# Altium integrated library Silicon Labs Capacitive Touch Sense MCUs.IntLib: 96 symbols (part 3 of 5)
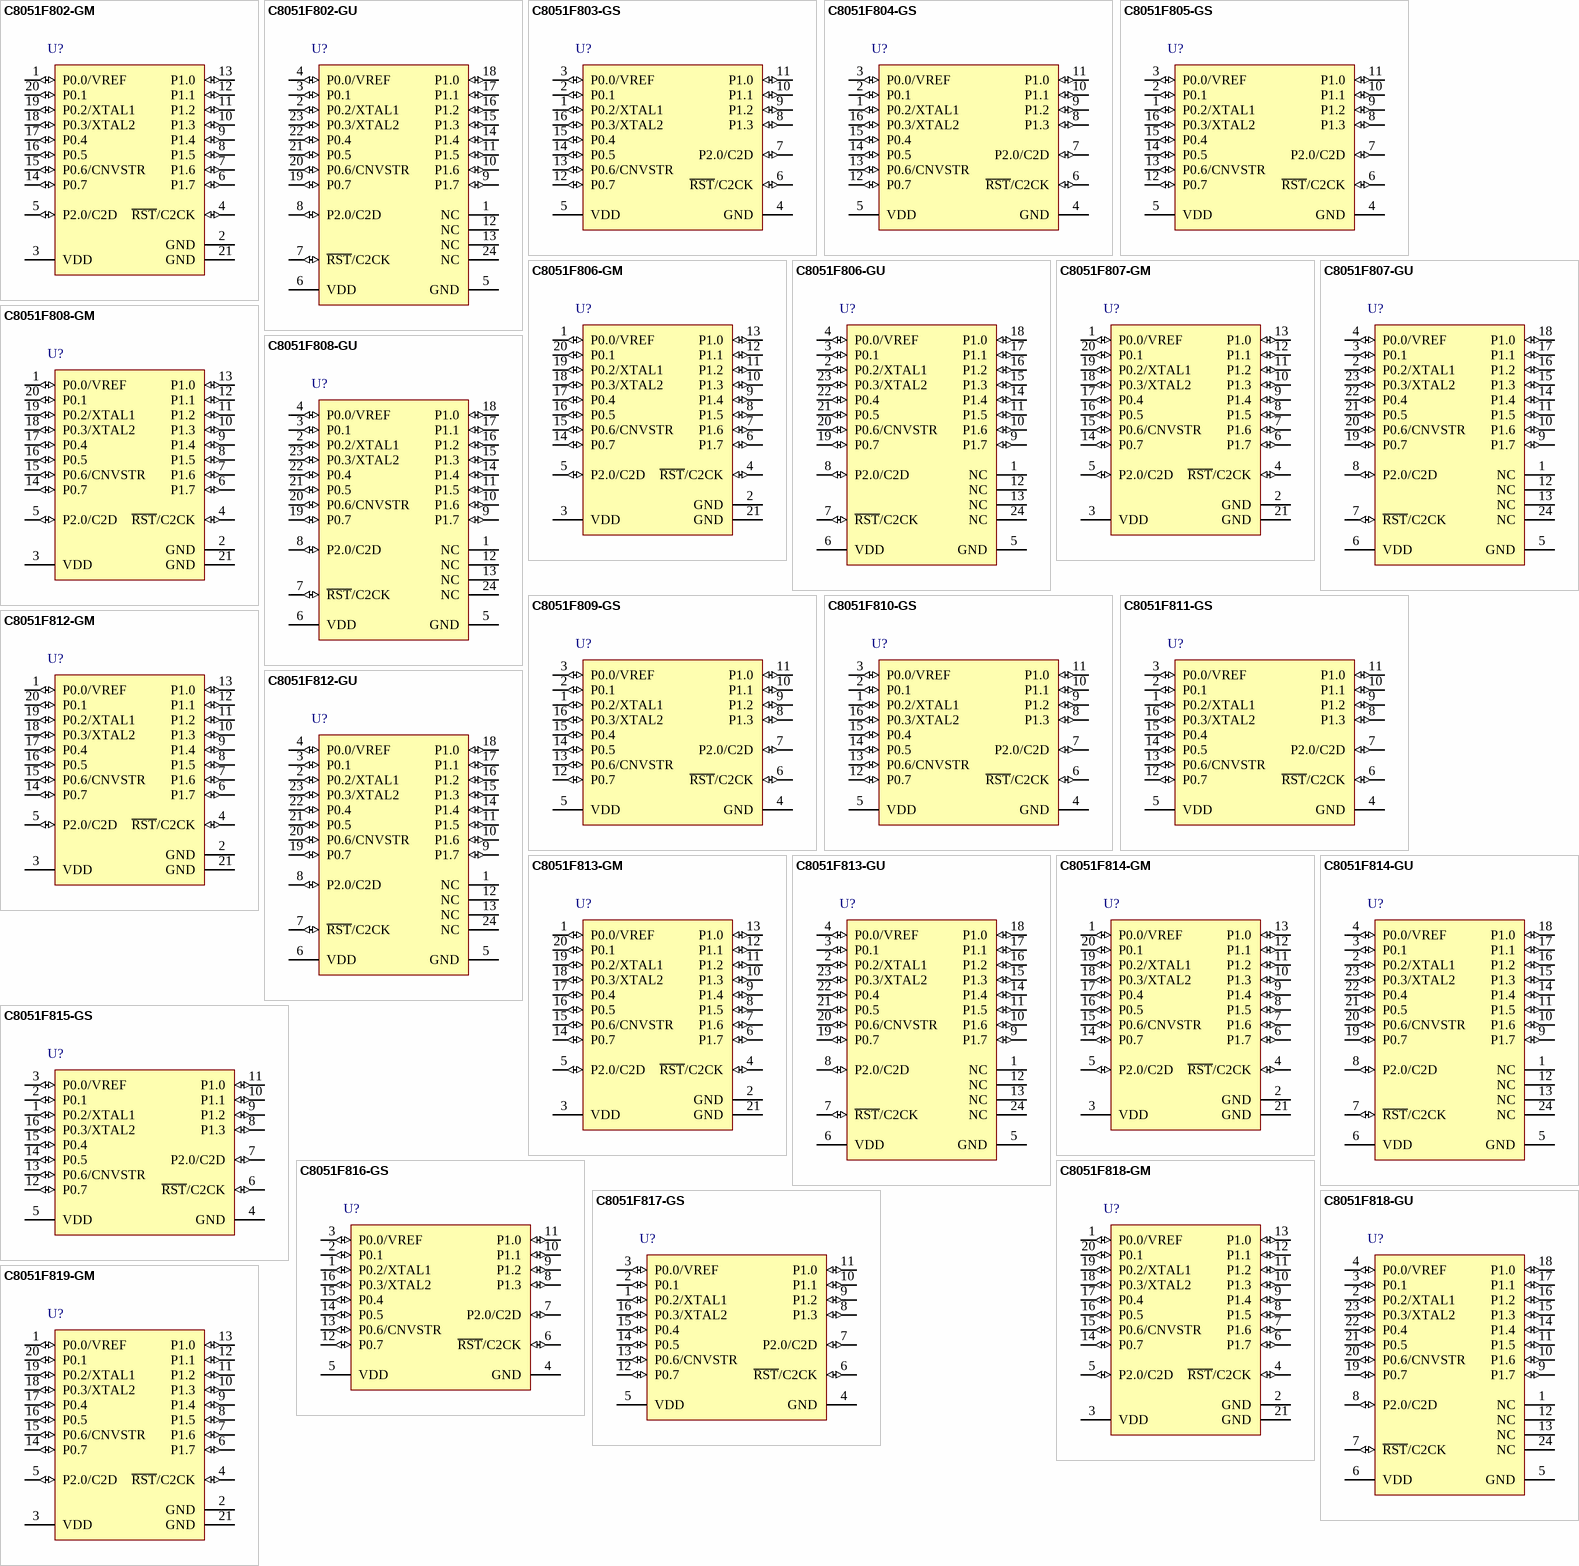
[diagram p8: symbols C8051F802-GM to C8051F819-GM]

## C8051F802-GU
designator U?
Mixed Signal ISP Flash MCU Family, 25 MHz, 0.5 kB RAM, 16 kB Flash, -40 to 85 degC, 24-pin SOP; Manufacturer: Silicon Labs; PartNumber: C8051F802-GU; ADC 1: 10-bit, 16-ch., 500 ksps; AEC-Q100: FALSE; Comparators: 1; Debug Interface: C2; Dig I/O Pins: 17; Flash: 16 kB; Internal Osc. Accuracy: +/-2%; MCU Core: 8051; MHz: 25; PCA Channels: 3; RAM: 0.5 kB; Temp Sensor: TRUE; Sub-Family: Capacitive Touch Sense MCUs; DatasheetVersion: Rev. 1.0; PackageReference: QSOP-24; PackageDescription: 24-Pin Quarter-Size Small-Outline Package, Body 8.65 x 3.9 mm, Pitch 0.635 mm; Supplier 1: Digi-Key; Supplier Part Number 1: 336-1771-5-ND; Supplier 2: Mouser; Supplier Part Number 2: 634-C8051F802-GU; Timers (16-bit): 3; Mounting Technology: Surface Mount; Code_JEDEC: MO-147; Code_IPC: J-STD-020; ComponentLink1Description: Manufacturer URL; ComponentLink1URL: http://www.silabs.com/; ComponentLink2Description: Datasheet; ComponentLink2URL: http://www.silabs.com/Support Documents/TechnicalDocs/C8051F80x-83x.pdf; ComponentLink3Description: Package Specification; ComponentLink3URL: http://www.silabs.com/Support%20Documents/TechnicalDocs/C8051F99x.pdf
footprint SLAB-QSOP-24_N (SOP, 24-Leads, Body 8.65x3.9mm, Pitch 0.635mm, IPC Medium Density)
footprint SLAB-QSOP-24_L (SOP, 24-Leads, Body 8.65x3.9mm, Pitch 0.635mm, IPC High Density)
footprint SLAB-QSOP-24_M (SOP, 24-Leads, Body 8.65x3.9mm, Pitch 0.635mm, IPC Low Density)
pins: 1 NC "No Connection.", 2 P0.2/XTAL1 (io), 3 P0.1 (io) "Port 0.1.", 4 P0.0/VREF (io), 5 GND (power) "Ground. This ground connection is required. The center pad may optionally be connected to ground as well on the QFN-20 packages.", 6 VDD (power) "Power Supply Voltage.", 7 ~{RST}/C2CK (io), 8 P2.0/C2D (io), 9 P1.7 (io) "Port 1.7.", 10 P1.6 (io) "Port 1.6.", 11 P1.5 (io) "Port 1.5.", 12 NC "No Connection.", 13 NC "No Connection.", 14 P1.4 (io) "Port 1.4.", 15 P1.3 (io) "Port 1.3.", 16 P1.2 (io) "Port 1.2.", 17 P1.1 (io) "Port 1.1.", 18 P1.0 (io) "Port 1.0.", 19 P0.7 (io) "Port 0.7.", 20 P0.6/CNVSTR (io), 21 P0.5 (io) "Port 0.5.", 22 P0.4 (io) "Port 0.4.", 23 P0.3/XTAL2 (io), 24 NC "No Connection."

## C8051F803-GS
designator U?
Mixed Signal ISP Flash MCU Family, 25 MHz, 0.5 kB RAM, 16 kB Flash, -40 to 85 degC, 16-pin SOIC; Manufacturer: Silicon Labs; PartNumber: C8051F803-GS; ADC 1: 10-bit, 12-ch., 500 ksps; AEC-Q100: FALSE; Comparators: 1; Debug Interface: C2; Dig I/O Pins: 13; Flash: 16 kB; Internal Osc. Accuracy: +/-2%; MCU Core: 8051; MHz: 25; PCA Channels: 3; RAM: 0.5 kB; Temp Sensor: TRUE; Sub-Family: Capacitive Touch Sense MCUs; DatasheetVersion: Rev. 1.0; PackageReference: SOIC-16-NB; PackageDescription: 16-Pin Small-Outline Integrated Circuit, Body 9.9 x 3.9 mm, Pitch 1.27 mm; Supplier 1: Digi-Key; Supplier Part Number 1: 336-1772-5-ND; Supplier 2: Mouser; Supplier Part Number 2: 634-C8051F803-GS; Timers (16-bit): 3; Mounting Technology: Surface Mount; Code_JEDEC: MS-012; Code_IPC: J-STD-020; ComponentLink1Description: Manufacturer URL; ComponentLink1URL: http://www.silabs.com/; ComponentLink2Description: Datasheet; ComponentLink2URL: http://www.silabs.com/Support Documents/TechnicalDocs/C8051F80x-83x.pdf; ComponentLink3Description: Package Specification; ComponentLink3URL: http://www.silabs.com/Support%20Documents/TechnicalDocs/si2401.pdf
footprint SLAB-SOIC-16-NB_N (SOIC, 16-Leads, Body 9.9x3.9mm, Pitch 1.27mm, IPC Medium Density)
footprint SLAB-SOIC-16-NB_L (SOIC, 16-Leads, Body 9.9x3.9mm, Pitch 1.27mm, IPC High Density)
footprint SLAB-SOIC-16-NB_M (SOIC, 16-Leads, Body 9.9x3.9mm, Pitch 1.27mm, IPC Low Density)
pins: 1 P0.2/XTAL1 (io), 2 P0.1 (io) "Port 0.1.", 3 P0.0/VREF (io), 4 GND (power) "Ground.", 5 VDD (power) "Power Supply Voltage.", 6 ~{RST}/C2CK (io), 7 P2.0/C2D (io), 8 P1.3 (io) "Port 1.3.", 9 P1.2 (io) "Port 1.2.", 10 P1.1 (io) "Port 1.1.", 11 P1.0 (io) "Port 1.0.", 12 P0.7 (io) "Port 0.7.", 13 P0.6/CNVSTR (io), 14 P0.5 (io) "Port 0.5.", 15 P0.4 (io) "Port 0.4.", 16 P0.3/XTAL2 (io)

## C8051F804-GS
designator U?
Mixed Signal ISP Flash MCU Family, 25 MHz, 0.5 kB RAM, 16 kB Flash, -40 to 85 degC, 16-pin SOIC; Manufacturer: Silicon Labs; PartNumber: C8051F804-GS; ADC 1: 10-bit, 12-ch., 500 ksps; AEC-Q100: FALSE; Comparators: 1; Debug Interface: C2; Dig I/O Pins: 13; Flash: 16 kB; Internal Osc. Accuracy: +/-2%; MCU Core: 8051; MHz: 25; PCA Channels: 3; RAM: 0.5 kB; Temp Sensor: TRUE; Sub-Family: Capacitive Touch Sense MCUs; DatasheetVersion: Rev. 1.0; PackageReference: SOIC-16-NB; PackageDescription: 16-Pin Small-Outline Integrated Circuit, Body 9.9 x 3.9 mm, Pitch 1.27 mm; Supplier 1: Digi-Key; Supplier Part Number 1: 336-1773-5-ND; Supplier 2: Mouser; Supplier Part Number 2: 634-C8051F804-GS; Timers (16-bit): 3; Mounting Technology: Surface Mount; Code_JEDEC: MS-012; Code_IPC: J-STD-020; ComponentLink1Description: Manufacturer URL; ComponentLink1URL: http://www.silabs.com/; ComponentLink2Description: Datasheet; ComponentLink2URL: http://www.silabs.com/Support Documents/TechnicalDocs/C8051F80x-83x.pdf; ComponentLink3Description: Package Specification; ComponentLink3URL: http://www.silabs.com/Support%20Documents/TechnicalDocs/si2401.pdf
footprint SLAB-SOIC-16-NB_N (SOIC, 16-Leads, Body 9.9x3.9mm, Pitch 1.27mm, IPC Medium Density)
footprint SLAB-SOIC-16-NB_L (SOIC, 16-Leads, Body 9.9x3.9mm, Pitch 1.27mm, IPC High Density)
footprint SLAB-SOIC-16-NB_M (SOIC, 16-Leads, Body 9.9x3.9mm, Pitch 1.27mm, IPC Low Density)
pins: 1 P0.2/XTAL1 (io), 2 P0.1 (io) "Port 0.1.", 3 P0.0/VREF (io), 4 GND (power) "Ground.", 5 VDD (power) "Power Supply Voltage.", 6 ~{RST}/C2CK (io), 7 P2.0/C2D (io), 8 P1.3 (io) "Port 1.3.", 9 P1.2 (io) "Port 1.2.", 10 P1.1 (io) "Port 1.1.", 11 P1.0 (io) "Port 1.0.", 12 P0.7 (io) "Port 0.7.", 13 P0.6/CNVSTR (io), 14 P0.5 (io) "Port 0.5.", 15 P0.4 (io) "Port 0.4.", 16 P0.3/XTAL2 (io)

## C8051F805-GS
designator U?
Mixed Signal ISP Flash MCU Family, 25 MHz, 0.5 kB RAM, 16 kB Flash, -40 to 85 degC, 16-pin SOIC; Manufacturer: Silicon Labs; PartNumber: C8051F805-GS; ADC 1: 10-bit, 12-ch., 500 ksps; AEC-Q100: FALSE; Comparators: 1; Debug Interface: C2; Dig I/O Pins: 13; Flash: 16 kB; Internal Osc. Accuracy: +/-2%; MCU Core: 8051; MHz: 25; PCA Channels: 3; RAM: 0.5 kB; Temp Sensor: TRUE; Sub-Family: Capacitive Touch Sense MCUs; DatasheetVersion: Rev. 1.0; PackageReference: SOIC-16-NB; PackageDescription: 16-Pin Small-Outline Integrated Circuit, Body 9.9 x 3.9 mm, Pitch 1.27 mm; Supplier 1: Digi-Key; Supplier Part Number 1: 336-1774-5-ND; Supplier 2: Mouser; Supplier Part Number 2: 634-C8051F805-GS; Timers (16-bit): 3; Mounting Technology: Surface Mount; Code_JEDEC: MS-012; Code_IPC: J-STD-020; ComponentLink1Description: Manufacturer URL; ComponentLink1URL: http://www.silabs.com/; ComponentLink2Description: Datasheet; ComponentLink2URL: http://www.silabs.com/Support Documents/TechnicalDocs/C8051F80x-83x.pdf; ComponentLink3Description: Package Specification; ComponentLink3URL: http://www.silabs.com/Support%20Documents/TechnicalDocs/si2401.pdf
footprint SLAB-SOIC-16-NB_N (SOIC, 16-Leads, Body 9.9x3.9mm, Pitch 1.27mm, IPC Medium Density)
footprint SLAB-SOIC-16-NB_L (SOIC, 16-Leads, Body 9.9x3.9mm, Pitch 1.27mm, IPC High Density)
footprint SLAB-SOIC-16-NB_M (SOIC, 16-Leads, Body 9.9x3.9mm, Pitch 1.27mm, IPC Low Density)
pins: 1 P0.2/XTAL1 (io), 2 P0.1 (io) "Port 0.1.", 3 P0.0/VREF (io), 4 GND (power) "Ground.", 5 VDD (power) "Power Supply Voltage.", 6 ~{RST}/C2CK (io), 7 P2.0/C2D (io), 8 P1.3 (io) "Port 1.3.", 9 P1.2 (io) "Port 1.2.", 10 P1.1 (io) "Port 1.1.", 11 P1.0 (io) "Port 1.0.", 12 P0.7 (io) "Port 0.7.", 13 P0.6/CNVSTR (io), 14 P0.5 (io) "Port 0.5.", 15 P0.4 (io) "Port 0.4.", 16 P0.3/XTAL2 (io)

## C8051F806-GM
designator U?
Mixed Signal ISP Flash MCU Family, 25 MHz, 0.5 kB RAM, 16 kB Flash, -40 to 85 degC, 20-pin QFN; Manufacturer: Silicon Labs; PartNumber: C8051F806-GM; AEC-Q100: FALSE; Comparators: 1; Debug Interface: C2; Dig I/O Pins: 17; Flash: 16 kB; Internal Osc. Accuracy: +/-2%; MCU Core: 8051; MHz: 25; PCA Channels: 3; RAM: 0.5 kB; Sub-Family: Capacitive Touch Sense MCUs; DatasheetVersion: Rev. 1.0; PackageReference: QFN-20; PackageDescription: 20-Pin Quad-Flat No-Leads Package, Body 4 x 4 mm, Pitch 0.5 mm; Supplier 1: Digi-Key; Supplier Part Number 1: 336-1775-5-ND; Supplier 2: Mouser; Supplier Part Number 2: 634-C8051F806-GM; Temp Sensor: FALSE; Timers (16-bit): 3; Mounting Technology: Surface Mount; Code_JEDEC: MO-220; Code_IPC: J-STD-020; ComponentLink1Description: Manufacturer URL; ComponentLink1URL: http://www.silabs.com/; ComponentLink2Description: Datasheet; ComponentLink2URL: http://www.silabs.com/Support Documents/TechnicalDocs/C8051F80x-83x.pdf; ComponentLink3Description: Package Specification; ComponentLink3URL: http://www.silabs.com/Support%20Documents/TechnicalDocs/C8051F80x-83x.pdf
footprint SLAB-QFN-20-2125x2125TP_N (QFN, 20-Leads, Body 4x4mm, Pitch 0.5mm, Thermal Pad 2.13x2.13mm, IPC Medium Density)
footprint SLAB-QFN-20-2125x2125TP_L (QFN, 20-Leads, Body 4x4mm, Pitch 0.5mm, Thermal Pad 2.13x2.13mm, IPC High Density)
footprint SLAB-QFN-20-2125x2125TP_M (QFN, 20-Leads, Body 4x4mm, Pitch 0.5mm, Thermal Pad 2.13x2.13mm, IPC Low Density)
pins: 1 P0.0/VREF (io), 2 GND (power) "Ground.", 3 VDD (power) "Power Supply Voltage.", 4 ~{RST}/C2CK (io), 5 P2.0/C2D (io), 6 P1.7 (io) "Port 1.7.", 7 P1.6 (io) "Port 1.6.", 8 P1.5 (io) "Port 1.5.", 9 P1.4 (io) "Port 1.4.", 10 P1.3 (io) "Port 1.3.", 11 P1.2 (io) "Port 1.2.", 12 P1.1 (io) "Port 1.1.", 13 P1.0 (io) "Port 1.0.", 14 P0.7 (io) "Port 0.7.", 15 P0.6/CNVSTR (io), 16 P0.5 (io) "Port 0.5.", 17 P0.4 (io) "Port 0.4.", 18 P0.3/XTAL2 (io), 19 P0.2/XTAL1 (io), 20 P0.1 (io) "Port 0.1.", 21 GND (power) "This ground connection is required. The center  pad may optionally be connected to ground as  well on the QFN-20 packages."

## C8051F806-GU
designator U?
Mixed Signal ISP Flash MCU Family, 25 MHz, 0.5 kB RAM, 16 kB Flash, -40 to 85 degC, 24-pin SOP; Manufacturer: Silicon Labs; PartNumber: C8051F806-GU; AEC-Q100: FALSE; Comparators: 1; Debug Interface: C2; Dig I/O Pins: 17; Flash: 16 kB; Internal Osc. Accuracy: +/-2%; MCU Core: 8051; MHz: 25; PCA Channels: 3; RAM: 0.5 kB; Sub-Family: Capacitive Touch Sense MCUs; DatasheetVersion: Rev. 1.0; PackageReference: QSOP-24; PackageDescription: 24-Pin Quarter-Size Small-Outline Package, Body 8.65 x 3.9 mm, Pitch 0.635 mm; Supplier 1: Digi-Key; Supplier Part Number 1: 336-1776-5-ND; Supplier 2: Mouser; Supplier Part Number 2: 634-C8051F806-GU; Temp Sensor: FALSE; Timers (16-bit): 3; Mounting Technology: Surface Mount; Code_JEDEC: MO-147; Code_IPC: J-STD-020; ComponentLink1Description: Manufacturer URL; ComponentLink1URL: http://www.silabs.com/; ComponentLink2Description: Datasheet; ComponentLink2URL: http://www.silabs.com/Support Documents/TechnicalDocs/C8051F80x-83x.pdf; ComponentLink3Description: Package Specification; ComponentLink3URL: http://www.silabs.com/Support%20Documents/TechnicalDocs/C8051F99x.pdf
footprint SLAB-QSOP-24_N (SOP, 24-Leads, Body 8.65x3.9mm, Pitch 0.635mm, IPC Medium Density)
footprint SLAB-QSOP-24_L (SOP, 24-Leads, Body 8.65x3.9mm, Pitch 0.635mm, IPC High Density)
footprint SLAB-QSOP-24_M (SOP, 24-Leads, Body 8.65x3.9mm, Pitch 0.635mm, IPC Low Density)
pins: 1 NC "No Connection.", 2 P0.2/XTAL1 (io), 3 P0.1 (io) "Port 0.1.", 4 P0.0/VREF (io), 5 GND (power) "Ground. This ground connection is required. The center pad may optionally be connected to ground as well on the QFN-20 packages.", 6 VDD (power) "Power Supply Voltage.", 7 ~{RST}/C2CK (io), 8 P2.0/C2D (io), 9 P1.7 (io) "Port 1.7.", 10 P1.6 (io) "Port 1.6.", 11 P1.5 (io) "Port 1.5.", 12 NC "No Connection.", 13 NC "No Connection.", 14 P1.4 (io) "Port 1.4.", 15 P1.3 (io) "Port 1.3.", 16 P1.2 (io) "Port 1.2.", 17 P1.1 (io) "Port 1.1.", 18 P1.0 (io) "Port 1.0.", 19 P0.7 (io) "Port 0.7.", 20 P0.6/CNVSTR (io), 21 P0.5 (io) "Port 0.5.", 22 P0.4 (io) "Port 0.4.", 23 P0.3/XTAL2 (io), 24 NC "No Connection."

## C8051F807-GM
designator U?
Mixed Signal ISP Flash MCU Family, 25 MHz, 0.5 kB RAM, 16 kB Flash, -40 to 85 degC, 20-pin QFN; Manufacturer: Silicon Labs; PartNumber: C8051F807-GM; AEC-Q100: FALSE; Comparators: 1; Debug Interface: C2; Dig I/O Pins: 17; Flash: 16 kB; Internal Osc. Accuracy: +/-2%; MCU Core: 8051; MHz: 25; PCA Channels: 3; RAM: 0.5 kB; Sub-Family: Capacitive Touch Sense MCUs; DatasheetVersion: Rev. 1.0; PackageReference: QFN-20; PackageDescription: 20-Pin Quad-Flat No-Leads Package, Body 4 x 4 mm, Pitch 0.5 mm; Supplier 1: Digi-Key; Supplier Part Number 1: 336-1777-5-ND; Supplier 2: Mouser; Supplier Part Number 2: 634-C8051F807-GM; Temp Sensor: FALSE; Timers (16-bit): 3; Mounting Technology: Surface Mount; Code_JEDEC: MO-220; Code_IPC: J-STD-020; ComponentLink1Description: Manufacturer URL; ComponentLink1URL: http://www.silabs.com/; ComponentLink2Description: Datasheet; ComponentLink2URL: http://www.silabs.com/Support Documents/TechnicalDocs/C8051F80x-83x.pdf; ComponentLink3Description: Package Specification; ComponentLink3URL: http://www.silabs.com/Support%20Documents/TechnicalDocs/C8051F80x-83x.pdf
footprint SLAB-QFN-20-2125x2125TP_N (QFN, 20-Leads, Body 4x4mm, Pitch 0.5mm, Thermal Pad 2.13x2.13mm, IPC Medium Density)
footprint SLAB-QFN-20-2125x2125TP_L (QFN, 20-Leads, Body 4x4mm, Pitch 0.5mm, Thermal Pad 2.13x2.13mm, IPC High Density)
footprint SLAB-QFN-20-2125x2125TP_M (QFN, 20-Leads, Body 4x4mm, Pitch 0.5mm, Thermal Pad 2.13x2.13mm, IPC Low Density)
pins: 1 P0.0/VREF (io), 2 GND (power) "Ground.", 3 VDD (power) "Power Supply Voltage.", 4 ~{RST}/C2CK (io), 5 P2.0/C2D (io), 6 P1.7 (io) "Port 1.7.", 7 P1.6 (io) "Port 1.6.", 8 P1.5 (io) "Port 1.5.", 9 P1.4 (io) "Port 1.4.", 10 P1.3 (io) "Port 1.3.", 11 P1.2 (io) "Port 1.2.", 12 P1.1 (io) "Port 1.1.", 13 P1.0 (io) "Port 1.0.", 14 P0.7 (io) "Port 0.7.", 15 P0.6/CNVSTR (io), 16 P0.5 (io) "Port 0.5.", 17 P0.4 (io) "Port 0.4.", 18 P0.3/XTAL2 (io), 19 P0.2/XTAL1 (io), 20 P0.1 (io) "Port 0.1.", 21 GND (power) "This ground connection is required. The center  pad may optionally be connected to ground as  well on the QFN-20 packages."

## C8051F807-GU
designator U?
Mixed Signal ISP Flash MCU Family, 25 MHz, 0.5 kB RAM, 16 kB Flash, -40 to 85 degC, 24-pin SOP; Manufacturer: Silicon Labs; PartNumber: C8051F807-GU; AEC-Q100: FALSE; Comparators: 1; Debug Interface: C2; Dig I/O Pins: 17; Flash: 16 kB; Internal Osc. Accuracy: +/-2%; MCU Core: 8051; MHz: 25; PCA Channels: 3; RAM: 0.5 kB; Sub-Family: Capacitive Touch Sense MCUs; DatasheetVersion: Rev. 1.0; PackageReference: QSOP-24; PackageDescription: 24-Pin Quarter-Size Small-Outline Package, Body 8.65 x 3.9 mm, Pitch 0.635 mm; Supplier 1: Digi-Key; Supplier Part Number 1: 336-1778-5-ND; Supplier 2: Mouser; Supplier Part Number 2: 634-C8051F807-GU; Temp Sensor: FALSE; Timers (16-bit): 3; Mounting Technology: Surface Mount; Code_JEDEC: MO-147; Code_IPC: J-STD-020; ComponentLink1Description: Manufacturer URL; ComponentLink1URL: http://www.silabs.com/; ComponentLink2Description: Datasheet; ComponentLink2URL: http://www.silabs.com/Support Documents/TechnicalDocs/C8051F80x-83x.pdf; ComponentLink3Description: Package Specification; ComponentLink3URL: http://www.silabs.com/Support%20Documents/TechnicalDocs/C8051F99x.pdf
footprint SLAB-QSOP-24_N (SOP, 24-Leads, Body 8.65x3.9mm, Pitch 0.635mm, IPC Medium Density)
footprint SLAB-QSOP-24_L (SOP, 24-Leads, Body 8.65x3.9mm, Pitch 0.635mm, IPC High Density)
footprint SLAB-QSOP-24_M (SOP, 24-Leads, Body 8.65x3.9mm, Pitch 0.635mm, IPC Low Density)
pins: 1 NC "No Connection.", 2 P0.2/XTAL1 (io), 3 P0.1 (io) "Port 0.1.", 4 P0.0/VREF (io), 5 GND (power) "Ground. This ground connection is required. The center pad may optionally be connected to ground as well on the QFN-20 packages.", 6 VDD (power) "Power Supply Voltage.", 7 ~{RST}/C2CK (io), 8 P2.0/C2D (io), 9 P1.7 (io) "Port 1.7.", 10 P1.6 (io) "Port 1.6.", 11 P1.5 (io) "Port 1.5.", 12 NC "No Connection.", 13 NC "No Connection.", 14 P1.4 (io) "Port 1.4.", 15 P1.3 (io) "Port 1.3.", 16 P1.2 (io) "Port 1.2.", 17 P1.1 (io) "Port 1.1.", 18 P1.0 (io) "Port 1.0.", 19 P0.7 (io) "Port 0.7.", 20 P0.6/CNVSTR (io), 21 P0.5 (io) "Port 0.5.", 22 P0.4 (io) "Port 0.4.", 23 P0.3/XTAL2 (io), 24 NC "No Connection."

## C8051F808-GM
designator U?
Mixed Signal ISP Flash MCU Family, 25 MHz, 0.5 kB RAM, 16 kB Flash, -40 to 85 degC, 20-pin QFN; Manufacturer: Silicon Labs; PartNumber: C8051F808-GM; AEC-Q100: FALSE; Comparators: 1; Debug Interface: C2; Dig I/O Pins: 17; Flash: 16 kB; Internal Osc. Accuracy: +/-2%; MCU Core: 8051; MHz: 25; PCA Channels: 3; RAM: 0.5 kB; Sub-Family: Capacitive Touch Sense MCUs; DatasheetVersion: Rev. 1.0; PackageReference: QFN-20; PackageDescription: 20-Pin Quad-Flat No-Leads Package, Body 4 x 4 mm, Pitch 0.5 mm; Supplier 1: Digi-Key; Supplier Part Number 1: 336-1779-5-ND; Supplier 2: Mouser; Supplier Part Number 2: 634-C8051F808-GM; Temp Sensor: FALSE; Timers (16-bit): 3; Mounting Technology: Surface Mount; Code_JEDEC: MO-220; Code_IPC: J-STD-020; ComponentLink1Description: Manufacturer URL; ComponentLink1URL: http://www.silabs.com/; ComponentLink2Description: Datasheet; ComponentLink2URL: http://www.silabs.com/Support Documents/TechnicalDocs/C8051F80x-83x.pdf; ComponentLink3Description: Package Specification; ComponentLink3URL: http://www.silabs.com/Support%20Documents/TechnicalDocs/C8051F80x-83x.pdf
footprint SLAB-QFN-20-2125x2125TP_N (QFN, 20-Leads, Body 4x4mm, Pitch 0.5mm, Thermal Pad 2.13x2.13mm, IPC Medium Density)
footprint SLAB-QFN-20-2125x2125TP_L (QFN, 20-Leads, Body 4x4mm, Pitch 0.5mm, Thermal Pad 2.13x2.13mm, IPC High Density)
footprint SLAB-QFN-20-2125x2125TP_M (QFN, 20-Leads, Body 4x4mm, Pitch 0.5mm, Thermal Pad 2.13x2.13mm, IPC Low Density)
pins: 1 P0.0/VREF (io), 2 GND (power) "Ground.", 3 VDD (power) "Power Supply Voltage.", 4 ~{RST}/C2CK (io), 5 P2.0/C2D (io), 6 P1.7 (io) "Port 1.7.", 7 P1.6 (io) "Port 1.6.", 8 P1.5 (io) "Port 1.5.", 9 P1.4 (io) "Port 1.4.", 10 P1.3 (io) "Port 1.3.", 11 P1.2 (io) "Port 1.2.", 12 P1.1 (io) "Port 1.1.", 13 P1.0 (io) "Port 1.0.", 14 P0.7 (io) "Port 0.7.", 15 P0.6/CNVSTR (io), 16 P0.5 (io) "Port 0.5.", 17 P0.4 (io) "Port 0.4.", 18 P0.3/XTAL2 (io), 19 P0.2/XTAL1 (io), 20 P0.1 (io) "Port 0.1.", 21 GND (power) "This ground connection is required. The center  pad may optionally be connected to ground as  well on the QFN-20 packages."

## C8051F808-GU
designator U?
Mixed Signal ISP Flash MCU Family, 25 MHz, 0.5 kB RAM, 16 kB Flash, -40 to 85 degC, 24-pin SOP; Manufacturer: Silicon Labs; PartNumber: C8051F808-GU; AEC-Q100: FALSE; Comparators: 1; Debug Interface: C2; Dig I/O Pins: 17; Flash: 16 kB; Internal Osc. Accuracy: +/-2%; MCU Core: 8051; MHz: 25; PCA Channels: 3; RAM: 0.5 kB; Sub-Family: Capacitive Touch Sense MCUs; DatasheetVersion: Rev. 1.0; PackageReference: QSOP-24; PackageDescription: 24-Pin Quarter-Size Small-Outline Package, Body 8.65 x 3.9 mm, Pitch 0.635 mm; Supplier 1: Digi-Key; Supplier Part Number 1: 336-1780-5-ND; Supplier 2: Mouser; Supplier Part Number 2: 634-C8051F808-GU; Temp Sensor: FALSE; Timers (16-bit): 3; Mounting Technology: Surface Mount; Code_JEDEC: MO-147; Code_IPC: J-STD-020; ComponentLink1Description: Manufacturer URL; ComponentLink1URL: http://www.silabs.com/; ComponentLink2Description: Datasheet; ComponentLink2URL: http://www.silabs.com/Support Documents/TechnicalDocs/C8051F80x-83x.pdf; ComponentLink3Description: Package Specification; ComponentLink3URL: http://www.silabs.com/Support%20Documents/TechnicalDocs/C8051F99x.pdf
footprint SLAB-QSOP-24_N (SOP, 24-Leads, Body 8.65x3.9mm, Pitch 0.635mm, IPC Medium Density)
footprint SLAB-QSOP-24_L (SOP, 24-Leads, Body 8.65x3.9mm, Pitch 0.635mm, IPC High Density)
footprint SLAB-QSOP-24_M (SOP, 24-Leads, Body 8.65x3.9mm, Pitch 0.635mm, IPC Low Density)
pins: 1 NC "No Connection.", 2 P0.2/XTAL1 (io), 3 P0.1 (io) "Port 0.1.", 4 P0.0/VREF (io), 5 GND (power) "Ground. This ground connection is required. The center pad may optionally be connected to ground as well on the QFN-20 packages.", 6 VDD (power) "Power Supply Voltage.", 7 ~{RST}/C2CK (io), 8 P2.0/C2D (io), 9 P1.7 (io) "Port 1.7.", 10 P1.6 (io) "Port 1.6.", 11 P1.5 (io) "Port 1.5.", 12 NC "No Connection.", 13 NC "No Connection.", 14 P1.4 (io) "Port 1.4.", 15 P1.3 (io) "Port 1.3.", 16 P1.2 (io) "Port 1.2.", 17 P1.1 (io) "Port 1.1.", 18 P1.0 (io) "Port 1.0.", 19 P0.7 (io) "Port 0.7.", 20 P0.6/CNVSTR (io), 21 P0.5 (io) "Port 0.5.", 22 P0.4 (io) "Port 0.4.", 23 P0.3/XTAL2 (io), 24 NC "No Connection."

## C8051F809-GS
designator U?
Mixed Signal ISP Flash MCU Family, 25 MHz, 0.5 kB RAM, 16 kB Flash, -40 to 85 degC, 16-pin SOIC; Manufacturer: Silicon Labs; PartNumber: C8051F809-GS; AEC-Q100: FALSE; Comparators: 1; Debug Interface: C2; Dig I/O Pins: 13; Flash: 16 kB; Internal Osc. Accuracy: +/-2%; MCU Core: 8051; MHz: 25; PCA Channels: 3; RAM: 0.5 kB; Sub-Family: Capacitive Touch Sense MCUs; DatasheetVersion: Rev. 1.0; PackageReference: SOIC-16-NB; PackageDescription: 16-Pin Small-Outline Integrated Circuit, Body 9.9 x 3.9 mm, Pitch 1.27 mm; Supplier 1: Digi-Key; Supplier Part Number 1: 336-1781-5-ND; Supplier 2: Mouser; Supplier Part Number 2: 634-C8051F809-GS; Temp Sensor: FALSE; Timers (16-bit): 3; Mounting Technology: Surface Mount; Code_JEDEC: MS-012; Code_IPC: J-STD-020; ComponentLink1Description: Manufacturer URL; ComponentLink1URL: http://www.silabs.com/; ComponentLink2Description: Datasheet; ComponentLink2URL: http://www.silabs.com/Support Documents/TechnicalDocs/C8051F80x-83x.pdf; ComponentLink3Description: Package Specification; ComponentLink3URL: http://www.silabs.com/Support%20Documents/TechnicalDocs/si2401.pdf
footprint SLAB-SOIC-16-NB_N (SOIC, 16-Leads, Body 9.9x3.9mm, Pitch 1.27mm, IPC Medium Density)
footprint SLAB-SOIC-16-NB_L (SOIC, 16-Leads, Body 9.9x3.9mm, Pitch 1.27mm, IPC High Density)
footprint SLAB-SOIC-16-NB_M (SOIC, 16-Leads, Body 9.9x3.9mm, Pitch 1.27mm, IPC Low Density)
pins: 1 P0.2/XTAL1 (io), 2 P0.1 (io) "Port 0.1.", 3 P0.0/VREF (io), 4 GND (power) "Ground.", 5 VDD (power) "Power Supply Voltage.", 6 ~{RST}/C2CK (io), 7 P2.0/C2D (io), 8 P1.3 (io) "Port 1.3.", 9 P1.2 (io) "Port 1.2.", 10 P1.1 (io) "Port 1.1.", 11 P1.0 (io) "Port 1.0.", 12 P0.7 (io) "Port 0.7.", 13 P0.6/CNVSTR (io), 14 P0.5 (io) "Port 0.5.", 15 P0.4 (io) "Port 0.4.", 16 P0.3/XTAL2 (io)

## C8051F810-GS
designator U?
Mixed Signal ISP Flash MCU Family, 25 MHz, 0.5 kB RAM, 16 kB Flash, -40 to 85 degC, 16-pin SOIC; Manufacturer: Silicon Labs; PartNumber: C8051F810-GS; AEC-Q100: FALSE; Comparators: 1; Debug Interface: C2; Dig I/O Pins: 13; Flash: 16 kB; Internal Osc. Accuracy: +/-2%; MCU Core: 8051; MHz: 25; PCA Channels: 3; RAM: 0.5 kB; Sub-Family: Capacitive Touch Sense MCUs; DatasheetVersion: Rev. 1.0; PackageReference: SOIC-16-NB; PackageDescription: 16-Pin Small-Outline Integrated Circuit, Body 9.9 x 3.9 mm, Pitch 1.27 mm; Supplier 1: Digi-Key; Supplier Part Number 1: 336-1782-5-ND; Supplier 2: Mouser; Supplier Part Number 2: 634-C8051F810-GS; Temp Sensor: FALSE; Timers (16-bit): 3; Mounting Technology: Surface Mount; Code_JEDEC: MS-012; Code_IPC: J-STD-020; ComponentLink1Description: Manufacturer URL; ComponentLink1URL: http://www.silabs.com/; ComponentLink2Description: Datasheet; ComponentLink2URL: http://www.silabs.com/Support Documents/TechnicalDocs/C8051F80x-83x.pdf; ComponentLink3Description: Package Specification; ComponentLink3URL: http://www.silabs.com/Support%20Documents/TechnicalDocs/si2401.pdf
footprint SLAB-SOIC-16-NB_N (SOIC, 16-Leads, Body 9.9x3.9mm, Pitch 1.27mm, IPC Medium Density)
footprint SLAB-SOIC-16-NB_L (SOIC, 16-Leads, Body 9.9x3.9mm, Pitch 1.27mm, IPC High Density)
footprint SLAB-SOIC-16-NB_M (SOIC, 16-Leads, Body 9.9x3.9mm, Pitch 1.27mm, IPC Low Density)
pins: 1 P0.2/XTAL1 (io), 2 P0.1 (io) "Port 0.1.", 3 P0.0/VREF (io), 4 GND (power) "Ground.", 5 VDD (power) "Power Supply Voltage.", 6 ~{RST}/C2CK (io), 7 P2.0/C2D (io), 8 P1.3 (io) "Port 1.3.", 9 P1.2 (io) "Port 1.2.", 10 P1.1 (io) "Port 1.1.", 11 P1.0 (io) "Port 1.0.", 12 P0.7 (io) "Port 0.7.", 13 P0.6/CNVSTR (io), 14 P0.5 (io) "Port 0.5.", 15 P0.4 (io) "Port 0.4.", 16 P0.3/XTAL2 (io)

## C8051F811-GS
designator U?
Mixed Signal ISP Flash MCU Family, 25 MHz, 0.5 kB RAM, 16 kB Flash, -40 to 85 degC, 16-pin SOIC; Manufacturer: Silicon Labs; PartNumber: C8051F811-GS; AEC-Q100: FALSE; Comparators: 1; Debug Interface: C2; Dig I/O Pins: 13; Flash: 16 kB; Internal Osc. Accuracy: +/-2%; MCU Core: 8051; MHz: 25; PCA Channels: 3; RAM: 0.5 kB; Sub-Family: Capacitive Touch Sense MCUs; DatasheetVersion: Rev. 1.0; PackageReference: SOIC-16-NB; PackageDescription: 16-Pin Small-Outline Integrated Circuit, Body 9.9 x 3.9 mm, Pitch 1.27 mm; Supplier 1: Digi-Key; Supplier Part Number 1: 336-1783-5-ND; Supplier 2: Mouser; Supplier Part Number 2: 634-C8051F811-GS; Temp Sensor: FALSE; Timers (16-bit): 3; Mounting Technology: Surface Mount; Code_JEDEC: MS-012; Code_IPC: J-STD-020; ComponentLink1Description: Manufacturer URL; ComponentLink1URL: http://www.silabs.com/; ComponentLink2Description: Datasheet; ComponentLink2URL: http://www.silabs.com/Support Documents/TechnicalDocs/C8051F80x-83x.pdf; ComponentLink3Description: Package Specification; ComponentLink3URL: http://www.silabs.com/Support%20Documents/TechnicalDocs/si2401.pdf
footprint SLAB-SOIC-16-NB_N (SOIC, 16-Leads, Body 9.9x3.9mm, Pitch 1.27mm, IPC Medium Density)
footprint SLAB-SOIC-16-NB_L (SOIC, 16-Leads, Body 9.9x3.9mm, Pitch 1.27mm, IPC High Density)
footprint SLAB-SOIC-16-NB_M (SOIC, 16-Leads, Body 9.9x3.9mm, Pitch 1.27mm, IPC Low Density)
pins: 1 P0.2/XTAL1 (io), 2 P0.1 (io) "Port 0.1.", 3 P0.0/VREF (io), 4 GND (power) "Ground.", 5 VDD (power) "Power Supply Voltage.", 6 ~{RST}/C2CK (io), 7 P2.0/C2D (io), 8 P1.3 (io) "Port 1.3.", 9 P1.2 (io) "Port 1.2.", 10 P1.1 (io) "Port 1.1.", 11 P1.0 (io) "Port 1.0.", 12 P0.7 (io) "Port 0.7.", 13 P0.6/CNVSTR (io), 14 P0.5 (io) "Port 0.5.", 15 P0.4 (io) "Port 0.4.", 16 P0.3/XTAL2 (io)

## C8051F812-GM
designator U?
Mixed Signal ISP Flash MCU Family, 25 MHz, 0.5 kB RAM, 8 kB Flash, -40 to 85 degC, 20-pin QFN; Manufacturer: Silicon Labs; PartNumber: C8051F812-GM; ADC 1: 10-bit, 16-ch., 500 ksps; AEC-Q100: FALSE; Comparators: 1; Debug Interface: C2; Dig I/O Pins: 17; Flash: 8 kB; Internal Osc. Accuracy: +/-2%; MCU Core: 8051; MHz: 25; PCA Channels: 3; RAM: 0.5 kB; Temp Sensor: TRUE; Sub-Family: Capacitive Touch Sense MCUs; DatasheetVersion: Rev. 1.0; PackageReference: QFN-20; PackageDescription: 20-Pin Quad-Flat No-Leads Package, Body 4 x 4 mm, Pitch 0.5 mm; Supplier 1: Digi-Key; Supplier Part Number 1: 336-1784-5-ND; Supplier 2: Mouser; Supplier Part Number 2: 634-C8051F812-GM; Timers (16-bit): 3; Mounting Technology: Surface Mount; Code_JEDEC: MO-220; Code_IPC: J-STD-020; ComponentLink1Description: Manufacturer URL; ComponentLink1URL: http://www.silabs.com/; ComponentLink2Description: Datasheet; ComponentLink2URL: http://www.silabs.com/Support Documents/TechnicalDocs/C8051F80x-83x.pdf; ComponentLink3Description: Package Specification; ComponentLink3URL: http://www.silabs.com/Support%20Documents/TechnicalDocs/C8051F80x-83x.pdf
footprint SLAB-QFN-20-2125x2125TP_N (QFN, 20-Leads, Body 4x4mm, Pitch 0.5mm, Thermal Pad 2.13x2.13mm, IPC Medium Density)
footprint SLAB-QFN-20-2125x2125TP_L (QFN, 20-Leads, Body 4x4mm, Pitch 0.5mm, Thermal Pad 2.13x2.13mm, IPC High Density)
footprint SLAB-QFN-20-2125x2125TP_M (QFN, 20-Leads, Body 4x4mm, Pitch 0.5mm, Thermal Pad 2.13x2.13mm, IPC Low Density)
pins: 1 P0.0/VREF (io), 2 GND (power) "Ground.", 3 VDD (power) "Power Supply Voltage.", 4 ~{RST}/C2CK (io), 5 P2.0/C2D (io), 6 P1.7 (io) "Port 1.7.", 7 P1.6 (io) "Port 1.6.", 8 P1.5 (io) "Port 1.5.", 9 P1.4 (io) "Port 1.4.", 10 P1.3 (io) "Port 1.3.", 11 P1.2 (io) "Port 1.2.", 12 P1.1 (io) "Port 1.1.", 13 P1.0 (io) "Port 1.0.", 14 P0.7 (io) "Port 0.7.", 15 P0.6/CNVSTR (io), 16 P0.5 (io) "Port 0.5.", 17 P0.4 (io) "Port 0.4.", 18 P0.3/XTAL2 (io), 19 P0.2/XTAL1 (io), 20 P0.1 (io) "Port 0.1.", 21 GND (power) "This ground connection is required. The center  pad may optionally be connected to ground as  well on the QFN-20 packages."

## C8051F812-GU
designator U?
Mixed Signal ISP Flash MCU Family, 25 MHz, 0.5 kB RAM, 8 kB Flash, -40 to 85 degC, 24-pin SOP; Manufacturer: Silicon Labs; PartNumber: C8051F812-GU; ADC 1: 10-bit, 16-ch., 500 ksps; AEC-Q100: FALSE; Comparators: 1; Debug Interface: C2; Dig I/O Pins: 17; Flash: 8 kB; Internal Osc. Accuracy: +/-2%; MCU Core: 8051; MHz: 25; PCA Channels: 3; RAM: 0.5 kB; Temp Sensor: TRUE; Sub-Family: Capacitive Touch Sense MCUs; DatasheetVersion: Rev. 1.0; PackageReference: QSOP-24; PackageDescription: 24-Pin Quarter-Size Small-Outline Package, Body 8.65 x 3.9 mm, Pitch 0.635 mm; Supplier 1: Digi-Key; Supplier Part Number 1: 336-1785-5-ND; Supplier 2: Mouser; Supplier Part Number 2: 634-C8051F812-GU; Timers (16-bit): 3; Mounting Technology: Surface Mount; Code_JEDEC: MO-147; Code_IPC: J-STD-020; ComponentLink1Description: Manufacturer URL; ComponentLink1URL: http://www.silabs.com/; ComponentLink2Description: Datasheet; ComponentLink2URL: http://www.silabs.com/Support Documents/TechnicalDocs/C8051F80x-83x.pdf; ComponentLink3Description: Package Specification; ComponentLink3URL: http://www.silabs.com/Support%20Documents/TechnicalDocs/C8051F99x.pdf
footprint SLAB-QSOP-24_N (SOP, 24-Leads, Body 8.65x3.9mm, Pitch 0.635mm, IPC Medium Density)
footprint SLAB-QSOP-24_L (SOP, 24-Leads, Body 8.65x3.9mm, Pitch 0.635mm, IPC High Density)
footprint SLAB-QSOP-24_M (SOP, 24-Leads, Body 8.65x3.9mm, Pitch 0.635mm, IPC Low Density)
pins: 1 NC "No Connection.", 2 P0.2/XTAL1 (io), 3 P0.1 (io) "Port 0.1.", 4 P0.0/VREF (io), 5 GND (power) "Ground. This ground connection is required. The center pad may optionally be connected to ground as well on the QFN-20 packages.", 6 VDD (power) "Power Supply Voltage.", 7 ~{RST}/C2CK (io), 8 P2.0/C2D (io), 9 P1.7 (io) "Port 1.7.", 10 P1.6 (io) "Port 1.6.", 11 P1.5 (io) "Port 1.5.", 12 NC "No Connection.", 13 NC "No Connection.", 14 P1.4 (io) "Port 1.4.", 15 P1.3 (io) "Port 1.3.", 16 P1.2 (io) "Port 1.2.", 17 P1.1 (io) "Port 1.1.", 18 P1.0 (io) "Port 1.0.", 19 P0.7 (io) "Port 0.7.", 20 P0.6/CNVSTR (io), 21 P0.5 (io) "Port 0.5.", 22 P0.4 (io) "Port 0.4.", 23 P0.3/XTAL2 (io), 24 NC "No Connection."

## C8051F813-GM
designator U?
Mixed Signal ISP Flash MCU Family, 25 MHz, 0.5 kB RAM, 8 kB Flash, -40 to 85 degC, 20-pin QFN; Manufacturer: Silicon Labs; PartNumber: C8051F813-GM; ADC 1: 10-bit, 16-ch., 500 ksps; AEC-Q100: FALSE; Comparators: 1; Debug Interface: C2; Dig I/O Pins: 17; Flash: 8 kB; Internal Osc. Accuracy: +/-2%; MCU Core: 8051; MHz: 25; PCA Channels: 3; RAM: 0.5 kB; Temp Sensor: TRUE; Sub-Family: Capacitive Touch Sense MCUs; DatasheetVersion: Rev. 1.0; PackageReference: QFN-20; PackageDescription: 20-Pin Quad-Flat No-Leads Package, Body 4 x 4 mm, Pitch 0.5 mm; Supplier 1: Digi-Key; Supplier Part Number 1: 336-1786-5-ND; Supplier 2: Mouser; Supplier Part Number 2: 634-C8051F813-GM; Timers (16-bit): 3; Mounting Technology: Surface Mount; Code_JEDEC: MO-220; Code_IPC: J-STD-020; ComponentLink1Description: Manufacturer URL; ComponentLink1URL: http://www.silabs.com/; ComponentLink2Description: Datasheet; ComponentLink2URL: http://www.silabs.com/Support Documents/TechnicalDocs/C8051F80x-83x.pdf; ComponentLink3Description: Package Specification; ComponentLink3URL: http://www.silabs.com/Support%20Documents/TechnicalDocs/C8051F80x-83x.pdf
footprint SLAB-QFN-20-2125x2125TP_N (QFN, 20-Leads, Body 4x4mm, Pitch 0.5mm, Thermal Pad 2.13x2.13mm, IPC Medium Density)
footprint SLAB-QFN-20-2125x2125TP_L (QFN, 20-Leads, Body 4x4mm, Pitch 0.5mm, Thermal Pad 2.13x2.13mm, IPC High Density)
footprint SLAB-QFN-20-2125x2125TP_M (QFN, 20-Leads, Body 4x4mm, Pitch 0.5mm, Thermal Pad 2.13x2.13mm, IPC Low Density)
pins: 1 P0.0/VREF (io), 2 GND (power) "Ground.", 3 VDD (power) "Power Supply Voltage.", 4 ~{RST}/C2CK (io), 5 P2.0/C2D (io), 6 P1.7 (io) "Port 1.7.", 7 P1.6 (io) "Port 1.6.", 8 P1.5 (io) "Port 1.5.", 9 P1.4 (io) "Port 1.4.", 10 P1.3 (io) "Port 1.3.", 11 P1.2 (io) "Port 1.2.", 12 P1.1 (io) "Port 1.1.", 13 P1.0 (io) "Port 1.0.", 14 P0.7 (io) "Port 0.7.", 15 P0.6/CNVSTR (io), 16 P0.5 (io) "Port 0.5.", 17 P0.4 (io) "Port 0.4.", 18 P0.3/XTAL2 (io), 19 P0.2/XTAL1 (io), 20 P0.1 (io) "Port 0.1.", 21 GND (power) "This ground connection is required. The center  pad may optionally be connected to ground as  well on the QFN-20 packages."

## C8051F813-GU
designator U?
Mixed Signal ISP Flash MCU Family, 25 MHz, 0.5 kB RAM, 8 kB Flash, -40 to 85 degC, 24-pin SOP; Manufacturer: Silicon Labs; PartNumber: C8051F813-GU; ADC 1: 10-bit, 16-ch., 500 ksps; AEC-Q100: FALSE; Comparators: 1; Debug Interface: C2; Dig I/O Pins: 17; Flash: 8 kB; Internal Osc. Accuracy: +/-2%; MCU Core: 8051; MHz: 25; PCA Channels: 3; RAM: 0.5 kB; Temp Sensor: TRUE; Sub-Family: Capacitive Touch Sense MCUs; DatasheetVersion: Rev. 1.0; PackageReference: QSOP-24; PackageDescription: 24-Pin Quarter-Size Small-Outline Package, Body 8.65 x 3.9 mm, Pitch 0.635 mm; Supplier 1: Digi-Key; Supplier Part Number 1: 336-1787-5-ND; Supplier 2: Mouser; Supplier Part Number 2: 634-C8051F813-GU; Timers (16-bit): 3; Mounting Technology: Surface Mount; Code_JEDEC: MO-147; Code_IPC: J-STD-020; ComponentLink1Description: Manufacturer URL; ComponentLink1URL: http://www.silabs.com/; ComponentLink2Description: Datasheet; ComponentLink2URL: http://www.silabs.com/Support Documents/TechnicalDocs/C8051F80x-83x.pdf; ComponentLink3Description: Package Specification; ComponentLink3URL: http://www.silabs.com/Support%20Documents/TechnicalDocs/C8051F99x.pdf
footprint SLAB-QSOP-24_N (SOP, 24-Leads, Body 8.65x3.9mm, Pitch 0.635mm, IPC Medium Density)
footprint SLAB-QSOP-24_L (SOP, 24-Leads, Body 8.65x3.9mm, Pitch 0.635mm, IPC High Density)
footprint SLAB-QSOP-24_M (SOP, 24-Leads, Body 8.65x3.9mm, Pitch 0.635mm, IPC Low Density)
pins: 1 NC "No Connection.", 2 P0.2/XTAL1 (io), 3 P0.1 (io) "Port 0.1.", 4 P0.0/VREF (io), 5 GND (power) "Ground. This ground connection is required. The center pad may optionally be connected to ground as well on the QFN-20 packages.", 6 VDD (power) "Power Supply Voltage.", 7 ~{RST}/C2CK (io), 8 P2.0/C2D (io), 9 P1.7 (io) "Port 1.7.", 10 P1.6 (io) "Port 1.6.", 11 P1.5 (io) "Port 1.5.", 12 NC "No Connection.", 13 NC "No Connection.", 14 P1.4 (io) "Port 1.4.", 15 P1.3 (io) "Port 1.3.", 16 P1.2 (io) "Port 1.2.", 17 P1.1 (io) "Port 1.1.", 18 P1.0 (io) "Port 1.0.", 19 P0.7 (io) "Port 0.7.", 20 P0.6/CNVSTR (io), 21 P0.5 (io) "Port 0.5.", 22 P0.4 (io) "Port 0.4.", 23 P0.3/XTAL2 (io), 24 NC "No Connection."

## C8051F814-GM
designator U?
Mixed Signal ISP Flash MCU Family, 25 MHz, 0.5 kB RAM, 8 kB Flash, -40 to 85 degC, 20-pin QFN; Manufacturer: Silicon Labs; PartNumber: C8051F814-GM; ADC 1: 10-bit, 16-ch., 500 ksps; AEC-Q100: FALSE; Comparators: 1; Debug Interface: C2; Dig I/O Pins: 17; Flash: 8 kB; Internal Osc. Accuracy: +/-2%; MCU Core: 8051; MHz: 25; PCA Channels: 3; RAM: 0.5 kB; Temp Sensor: TRUE; Sub-Family: Capacitive Touch Sense MCUs; DatasheetVersion: Rev. 1.0; PackageReference: QFN-20; PackageDescription: 20-Pin Quad-Flat No-Leads Package, Body 4 x 4 mm, Pitch 0.5 mm; Supplier 1: Digi-Key; Supplier Part Number 1: 336-1788-5-ND; Supplier 2: Mouser; Supplier Part Number 2: 634-C8051F814-GM; Timers (16-bit): 3; Mounting Technology: Surface Mount; Code_JEDEC: MO-220; Code_IPC: J-STD-020; ComponentLink1Description: Manufacturer URL; ComponentLink1URL: http://www.silabs.com/; ComponentLink2Description: Datasheet; ComponentLink2URL: http://www.silabs.com/Support Documents/TechnicalDocs/C8051F80x-83x.pdf; ComponentLink3Description: Package Specification; ComponentLink3URL: http://www.silabs.com/Support%20Documents/TechnicalDocs/C8051F80x-83x.pdf
footprint SLAB-QFN-20-2125x2125TP_N (QFN, 20-Leads, Body 4x4mm, Pitch 0.5mm, Thermal Pad 2.13x2.13mm, IPC Medium Density)
footprint SLAB-QFN-20-2125x2125TP_L (QFN, 20-Leads, Body 4x4mm, Pitch 0.5mm, Thermal Pad 2.13x2.13mm, IPC High Density)
footprint SLAB-QFN-20-2125x2125TP_M (QFN, 20-Leads, Body 4x4mm, Pitch 0.5mm, Thermal Pad 2.13x2.13mm, IPC Low Density)
pins: 1 P0.0/VREF (io), 2 GND (power) "Ground.", 3 VDD (power) "Power Supply Voltage.", 4 ~{RST}/C2CK (io), 5 P2.0/C2D (io), 6 P1.7 (io) "Port 1.7.", 7 P1.6 (io) "Port 1.6.", 8 P1.5 (io) "Port 1.5.", 9 P1.4 (io) "Port 1.4.", 10 P1.3 (io) "Port 1.3.", 11 P1.2 (io) "Port 1.2.", 12 P1.1 (io) "Port 1.1.", 13 P1.0 (io) "Port 1.0.", 14 P0.7 (io) "Port 0.7.", 15 P0.6/CNVSTR (io), 16 P0.5 (io) "Port 0.5.", 17 P0.4 (io) "Port 0.4.", 18 P0.3/XTAL2 (io), 19 P0.2/XTAL1 (io), 20 P0.1 (io) "Port 0.1.", 21 GND (power) "This ground connection is required. The center  pad may optionally be connected to ground as  well on the QFN-20 packages."

## C8051F814-GU
designator U?
Mixed Signal ISP Flash MCU Family, 25 MHz, 0.5 kB RAM, 8 kB Flash, -40 to 85 degC, 24-pin SOP; Manufacturer: Silicon Labs; PartNumber: C8051F814-GU; ADC 1: 10-bit, 16-ch., 500 ksps; AEC-Q100: FALSE; Comparators: 1; Debug Interface: C2; Dig I/O Pins: 17; Flash: 8 kB; Internal Osc. Accuracy: +/-2%; MCU Core: 8051; MHz: 25; PCA Channels: 3; RAM: 0.5 kB; Temp Sensor: TRUE; Sub-Family: Capacitive Touch Sense MCUs; DatasheetVersion: Rev. 1.0; PackageReference: QSOP-24; PackageDescription: 24-Pin Quarter-Size Small-Outline Package, Body 8.65 x 3.9 mm, Pitch 0.635 mm; Supplier 1: Digi-Key; Supplier Part Number 1: 336-1789-5-ND; Supplier 2: Mouser; Supplier Part Number 2: 634-C8051F814-GU; Timers (16-bit): 3; Mounting Technology: Surface Mount; Code_JEDEC: MO-147; Code_IPC: J-STD-020; ComponentLink1Description: Manufacturer URL; ComponentLink1URL: http://www.silabs.com/; ComponentLink2Description: Datasheet; ComponentLink2URL: http://www.silabs.com/Support Documents/TechnicalDocs/C8051F80x-83x.pdf; ComponentLink3Description: Package Specification; ComponentLink3URL: http://www.silabs.com/Support%20Documents/TechnicalDocs/C8051F99x.pdf
footprint SLAB-QSOP-24_N (SOP, 24-Leads, Body 8.65x3.9mm, Pitch 0.635mm, IPC Medium Density)
footprint SLAB-QSOP-24_L (SOP, 24-Leads, Body 8.65x3.9mm, Pitch 0.635mm, IPC High Density)
footprint SLAB-QSOP-24_M (SOP, 24-Leads, Body 8.65x3.9mm, Pitch 0.635mm, IPC Low Density)
pins: 1 NC "No Connection.", 2 P0.2/XTAL1 (io), 3 P0.1 (io) "Port 0.1.", 4 P0.0/VREF (io), 5 GND (power) "Ground. This ground connection is required. The center pad may optionally be connected to ground as well on the QFN-20 packages.", 6 VDD (power) "Power Supply Voltage.", 7 ~{RST}/C2CK (io), 8 P2.0/C2D (io), 9 P1.7 (io) "Port 1.7.", 10 P1.6 (io) "Port 1.6.", 11 P1.5 (io) "Port 1.5.", 12 NC "No Connection.", 13 NC "No Connection.", 14 P1.4 (io) "Port 1.4.", 15 P1.3 (io) "Port 1.3.", 16 P1.2 (io) "Port 1.2.", 17 P1.1 (io) "Port 1.1.", 18 P1.0 (io) "Port 1.0.", 19 P0.7 (io) "Port 0.7.", 20 P0.6/CNVSTR (io), 21 P0.5 (io) "Port 0.5.", 22 P0.4 (io) "Port 0.4.", 23 P0.3/XTAL2 (io), 24 NC "No Connection."

## C8051F815-GS
designator U?
Mixed Signal ISP Flash MCU Family, 25 MHz, 0.5 kB RAM, 8 kB Flash, -40 to 85 degC, 16-pin SOIC; Manufacturer: Silicon Labs; PartNumber: C8051F815-GS; ADC 1: 10-bit, 12-ch., 500 ksps; AEC-Q100: FALSE; Comparators: 1; Debug Interface: C2; Dig I/O Pins: 13; Flash: 8 kB; Internal Osc. Accuracy: +/-2%; MCU Core: 8051; MHz: 25; PCA Channels: 3; RAM: 0.5 kB; Temp Sensor: TRUE; Sub-Family: Capacitive Touch Sense MCUs; DatasheetVersion: Rev. 1.0; PackageReference: SOIC-16-NB; PackageDescription: 16-Pin Small-Outline Integrated Circuit, Body 9.9 x 3.9 mm, Pitch 1.27 mm; Supplier 1: Digi-Key; Supplier Part Number 1: 336-1790-5-ND; Supplier 2: Mouser; Supplier Part Number 2: 634-C8051F815-GS; Timers (16-bit): 3; Mounting Technology: Surface Mount; Code_JEDEC: MS-012; Code_IPC: J-STD-020; ComponentLink1Description: Manufacturer URL; ComponentLink1URL: http://www.silabs.com/; ComponentLink2Description: Datasheet; ComponentLink2URL: http://www.silabs.com/Support Documents/TechnicalDocs/C8051F80x-83x.pdf; ComponentLink3Description: Package Specification; ComponentLink3URL: http://www.silabs.com/Support%20Documents/TechnicalDocs/si2401.pdf
footprint SLAB-SOIC-16-NB_N (SOIC, 16-Leads, Body 9.9x3.9mm, Pitch 1.27mm, IPC Medium Density)
footprint SLAB-SOIC-16-NB_L (SOIC, 16-Leads, Body 9.9x3.9mm, Pitch 1.27mm, IPC High Density)
footprint SLAB-SOIC-16-NB_M (SOIC, 16-Leads, Body 9.9x3.9mm, Pitch 1.27mm, IPC Low Density)
pins: 1 P0.2/XTAL1 (io), 2 P0.1 (io) "Port 0.1.", 3 P0.0/VREF (io), 4 GND (power) "Ground.", 5 VDD (power) "Power Supply Voltage.", 6 ~{RST}/C2CK (io), 7 P2.0/C2D (io), 8 P1.3 (io) "Port 1.3.", 9 P1.2 (io) "Port 1.2.", 10 P1.1 (io) "Port 1.1.", 11 P1.0 (io) "Port 1.0.", 12 P0.7 (io) "Port 0.7.", 13 P0.6/CNVSTR (io), 14 P0.5 (io) "Port 0.5.", 15 P0.4 (io) "Port 0.4.", 16 P0.3/XTAL2 (io)

## C8051F816-GS
designator U?
Mixed Signal ISP Flash MCU Family, 25 MHz, 0.5 kB RAM, 8 kB Flash, -40 to 85 degC, 16-pin SOIC; Manufacturer: Silicon Labs; PartNumber: C8051F816-GS; ADC 1: 10-bit, 12-ch., 500 ksps; AEC-Q100: FALSE; Comparators: 1; Debug Interface: C2; Dig I/O Pins: 13; Flash: 8 kB; Internal Osc. Accuracy: +/-2%; MCU Core: 8051; MHz: 25; PCA Channels: 3; RAM: 0.5 kB; Temp Sensor: TRUE; Sub-Family: Capacitive Touch Sense MCUs; DatasheetVersion: Rev. 1.0; PackageReference: SOIC-16-NB; PackageDescription: 16-Pin Small-Outline Integrated Circuit, Body 9.9 x 3.9 mm, Pitch 1.27 mm; Supplier 1: Digi-Key; Supplier Part Number 1: 336-1791-5-ND; Supplier 2: Mouser; Supplier Part Number 2: 634-C8051F816-GS; Timers (16-bit): 3; Mounting Technology: Surface Mount; Code_JEDEC: MS-012; Code_IPC: J-STD-020; ComponentLink1Description: Manufacturer URL; ComponentLink1URL: http://www.silabs.com/; ComponentLink2Description: Datasheet; ComponentLink2URL: http://www.silabs.com/Support Documents/TechnicalDocs/C8051F80x-83x.pdf; ComponentLink3Description: Package Specification; ComponentLink3URL: http://www.silabs.com/Support%20Documents/TechnicalDocs/si2401.pdf
footprint SLAB-SOIC-16-NB_N (SOIC, 16-Leads, Body 9.9x3.9mm, Pitch 1.27mm, IPC Medium Density)
footprint SLAB-SOIC-16-NB_L (SOIC, 16-Leads, Body 9.9x3.9mm, Pitch 1.27mm, IPC High Density)
footprint SLAB-SOIC-16-NB_M (SOIC, 16-Leads, Body 9.9x3.9mm, Pitch 1.27mm, IPC Low Density)
pins: 1 P0.2/XTAL1 (io), 2 P0.1 (io) "Port 0.1.", 3 P0.0/VREF (io), 4 GND (power) "Ground.", 5 VDD (power) "Power Supply Voltage.", 6 ~{RST}/C2CK (io), 7 P2.0/C2D (io), 8 P1.3 (io) "Port 1.3.", 9 P1.2 (io) "Port 1.2.", 10 P1.1 (io) "Port 1.1.", 11 P1.0 (io) "Port 1.0.", 12 P0.7 (io) "Port 0.7.", 13 P0.6/CNVSTR (io), 14 P0.5 (io) "Port 0.5.", 15 P0.4 (io) "Port 0.4.", 16 P0.3/XTAL2 (io)

## C8051F817-GS
designator U?
Mixed Signal ISP Flash MCU Family, 25 MHz, 0.5 kB RAM, 8 kB Flash, -40 to 85 degC, 16-pin SOIC; Manufacturer: Silicon Labs; PartNumber: C8051F817-GS; ADC 1: 10-bit, 12-ch., 500 ksps; AEC-Q100: FALSE; Comparators: 1; Debug Interface: C2; Dig I/O Pins: 13; Flash: 8 kB; Internal Osc. Accuracy: +/-2%; MCU Core: 8051; MHz: 25; PCA Channels: 3; RAM: 0.5 kB; Temp Sensor: TRUE; Sub-Family: Capacitive Touch Sense MCUs; DatasheetVersion: Rev. 1.0; PackageReference: SOIC-16-NB; PackageDescription: 16-Pin Small-Outline Integrated Circuit, Body 9.9 x 3.9 mm, Pitch 1.27 mm; Supplier 1: Digi-Key; Supplier Part Number 1: 336-1792-5-ND; Supplier 2: Mouser; Supplier Part Number 2: 634-C8051F817-GS; Timers (16-bit): 3; Mounting Technology: Surface Mount; Code_JEDEC: MS-012; Code_IPC: J-STD-020; ComponentLink1Description: Manufacturer URL; ComponentLink1URL: http://www.silabs.com/; ComponentLink2Description: Datasheet; ComponentLink2URL: http://www.silabs.com/Support Documents/TechnicalDocs/C8051F80x-83x.pdf; ComponentLink3Description: Package Specification; ComponentLink3URL: http://www.silabs.com/Support%20Documents/TechnicalDocs/si2401.pdf
footprint SLAB-SOIC-16-NB_N (SOIC, 16-Leads, Body 9.9x3.9mm, Pitch 1.27mm, IPC Medium Density)
footprint SLAB-SOIC-16-NB_L (SOIC, 16-Leads, Body 9.9x3.9mm, Pitch 1.27mm, IPC High Density)
footprint SLAB-SOIC-16-NB_M (SOIC, 16-Leads, Body 9.9x3.9mm, Pitch 1.27mm, IPC Low Density)
pins: 1 P0.2/XTAL1 (io), 2 P0.1 (io) "Port 0.1.", 3 P0.0/VREF (io), 4 GND (power) "Ground.", 5 VDD (power) "Power Supply Voltage.", 6 ~{RST}/C2CK (io), 7 P2.0/C2D (io), 8 P1.3 (io) "Port 1.3.", 9 P1.2 (io) "Port 1.2.", 10 P1.1 (io) "Port 1.1.", 11 P1.0 (io) "Port 1.0.", 12 P0.7 (io) "Port 0.7.", 13 P0.6/CNVSTR (io), 14 P0.5 (io) "Port 0.5.", 15 P0.4 (io) "Port 0.4.", 16 P0.3/XTAL2 (io)

## C8051F818-GM
designator U?
Mixed Signal ISP Flash MCU Family, 25 MHz, 0.5 kB RAM, 8 kB Flash, -40 to 85 degC, 20-pin QFN; Manufacturer: Silicon Labs; PartNumber: C8051F818-GM; AEC-Q100: FALSE; Comparators: 1; Debug Interface: C2; Dig I/O Pins: 17; Flash: 8 kB; Internal Osc. Accuracy: +/-2%; MCU Core: 8051; MHz: 25; PCA Channels: 3; RAM: 0.5 kB; Sub-Family: Capacitive Touch Sense MCUs; DatasheetVersion: Rev. 1.0; PackageReference: QFN-20; PackageDescription: 20-Pin Quad-Flat No-Leads Package, Body 4 x 4 mm, Pitch 0.5 mm; Supplier 1: Digi-Key; Supplier Part Number 1: 336-1798-5-ND; Supplier 2: Mouser; Supplier Part Number 2: 634-C8051F818-GM; Temp Sensor: FALSE; Timers (16-bit): 3; Mounting Technology: Surface Mount; Code_JEDEC: MO-220; Code_IPC: J-STD-020; ComponentLink1Description: Manufacturer URL; ComponentLink1URL: http://www.silabs.com/; ComponentLink2Description: Datasheet; ComponentLink2URL: http://www.silabs.com/Support Documents/TechnicalDocs/C8051F80x-83x.pdf; ComponentLink3Description: Package Specification; ComponentLink3URL: http://www.silabs.com/Support%20Documents/TechnicalDocs/C8051F80x-83x.pdf
footprint SLAB-QFN-20-2125x2125TP_N (QFN, 20-Leads, Body 4x4mm, Pitch 0.5mm, Thermal Pad 2.13x2.13mm, IPC Medium Density)
footprint SLAB-QFN-20-2125x2125TP_L (QFN, 20-Leads, Body 4x4mm, Pitch 0.5mm, Thermal Pad 2.13x2.13mm, IPC High Density)
footprint SLAB-QFN-20-2125x2125TP_M (QFN, 20-Leads, Body 4x4mm, Pitch 0.5mm, Thermal Pad 2.13x2.13mm, IPC Low Density)
pins: 1 P0.0/VREF (io), 2 GND (power) "Ground.", 3 VDD (power) "Power Supply Voltage.", 4 ~{RST}/C2CK (io), 5 P2.0/C2D (io), 6 P1.7 (io) "Port 1.7.", 7 P1.6 (io) "Port 1.6.", 8 P1.5 (io) "Port 1.5.", 9 P1.4 (io) "Port 1.4.", 10 P1.3 (io) "Port 1.3.", 11 P1.2 (io) "Port 1.2.", 12 P1.1 (io) "Port 1.1.", 13 P1.0 (io) "Port 1.0.", 14 P0.7 (io) "Port 0.7.", 15 P0.6/CNVSTR (io), 16 P0.5 (io) "Port 0.5.", 17 P0.4 (io) "Port 0.4.", 18 P0.3/XTAL2 (io), 19 P0.2/XTAL1 (io), 20 P0.1 (io) "Port 0.1.", 21 GND (power) "This ground connection is required. The center  pad may optionally be connected to ground as  well on the QFN-20 packages."

## C8051F818-GU
designator U?
Mixed Signal ISP Flash MCU Family, 25 MHz, 0.5 kB RAM, 8 kB Flash, -40 to 85 degC, 24-pin SOP; Manufacturer: Silicon Labs; PartNumber: C8051F818-GU; AEC-Q100: FALSE; Comparators: 1; Debug Interface: C2; Dig I/O Pins: 17; Flash: 8 kB; Internal Osc. Accuracy: +/-2%; MCU Core: 8051; MHz: 25; PCA Channels: 3; RAM: 0.5 kB; Sub-Family: Capacitive Touch Sense MCUs; DatasheetVersion: Rev. 1.0; PackageReference: QSOP-24; PackageDescription: 24-Pin Quarter-Size Small-Outline Package, Body 8.65 x 3.9 mm, Pitch 0.635 mm; Supplier 1: Digi-Key; Supplier Part Number 1: 336-1793-5-ND; Supplier 2: Mouser; Supplier Part Number 2: 634-C8051F818-GU; Temp Sensor: FALSE; Timers (16-bit): 3; Mounting Technology: Surface Mount; Code_JEDEC: MO-147; Code_IPC: J-STD-020; ComponentLink1Description: Manufacturer URL; ComponentLink1URL: http://www.silabs.com/; ComponentLink2Description: Datasheet; ComponentLink2URL: http://www.silabs.com/Support Documents/TechnicalDocs/C8051F80x-83x.pdf; ComponentLink3Description: Package Specification; ComponentLink3URL: http://www.silabs.com/Support%20Documents/TechnicalDocs/C8051F99x.pdf
footprint SLAB-QSOP-24_N (SOP, 24-Leads, Body 8.65x3.9mm, Pitch 0.635mm, IPC Medium Density)
footprint SLAB-QSOP-24_L (SOP, 24-Leads, Body 8.65x3.9mm, Pitch 0.635mm, IPC High Density)
footprint SLAB-QSOP-24_M (SOP, 24-Leads, Body 8.65x3.9mm, Pitch 0.635mm, IPC Low Density)
pins: 1 NC "No Connection.", 2 P0.2/XTAL1 (io), 3 P0.1 (io) "Port 0.1.", 4 P0.0/VREF (io), 5 GND (power) "Ground. This ground connection is required. The center pad may optionally be connected to ground as well on the QFN-20 packages.", 6 VDD (power) "Power Supply Voltage.", 7 ~{RST}/C2CK (io), 8 P2.0/C2D (io), 9 P1.7 (io) "Port 1.7.", 10 P1.6 (io) "Port 1.6.", 11 P1.5 (io) "Port 1.5.", 12 NC "No Connection.", 13 NC "No Connection.", 14 P1.4 (io) "Port 1.4.", 15 P1.3 (io) "Port 1.3.", 16 P1.2 (io) "Port 1.2.", 17 P1.1 (io) "Port 1.1.", 18 P1.0 (io) "Port 1.0.", 19 P0.7 (io) "Port 0.7.", 20 P0.6/CNVSTR (io), 21 P0.5 (io) "Port 0.5.", 22 P0.4 (io) "Port 0.4.", 23 P0.3/XTAL2 (io), 24 NC "No Connection."